# EAGLE library part S8B-PH-SM4-TB (library saha-cpu)
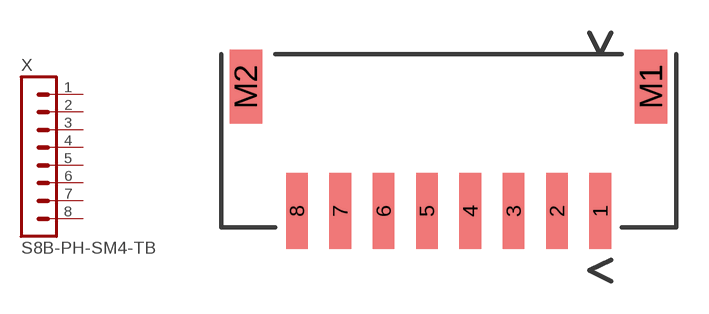
[diagram p6: symbol with the pads of JST-PH2.0-RA-8; footprint JST-PH2.0-RA-8]

Designator prefix X

## S8B-PH-SM4-TB  [JST-PH2.0-RA-8]
1  1  pas
2  2  pas
3  3  pas
4  4  pas
5  5  pas
6  6  pas
7  7  pas
8  8  pas

## Footprint JST-PH2.0-RA-8 (pad centres in mm)
smd 1 x 3.5: 1 7,-7.25; 2 5,-7.25; 3 3,-7.25; 4 1,-7.25; 5 -1,-7.25; 6 -3,-7.25; 7 -5,-7.25; 8 -7,-7.25
smd 1.5 x 3.4: M1 9.35,-1.5; M2 -9.35,-1.5